# Altium schematic symbol library AZ23C4V7-7-F Dual Zenner Diodes.SchLib: 1 symbol
Pins are listed as number, name and electrical type; pins without a type are passive.

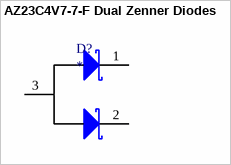
[diagram p0: symbol AZ23C4V7-7-F Dual Zenner Diodes]

## AZ23C4V7-7-F Dual Zenner Diodes
designator D?
pins: 1, 2, 3